# Altium footprint library KLS7-SS-12F19-G5.PcbLib: 1 footprints
Each footprint in its own frame and in the unit in brackets; x right, y up, seen from the top. Pads: shape width x height; smd on the part's side, far side on the other; paste and mask are expansions set on the pad; w line width, h text height; cw(c..) or ccw(c..) is an arc to the next point about the centre after c.
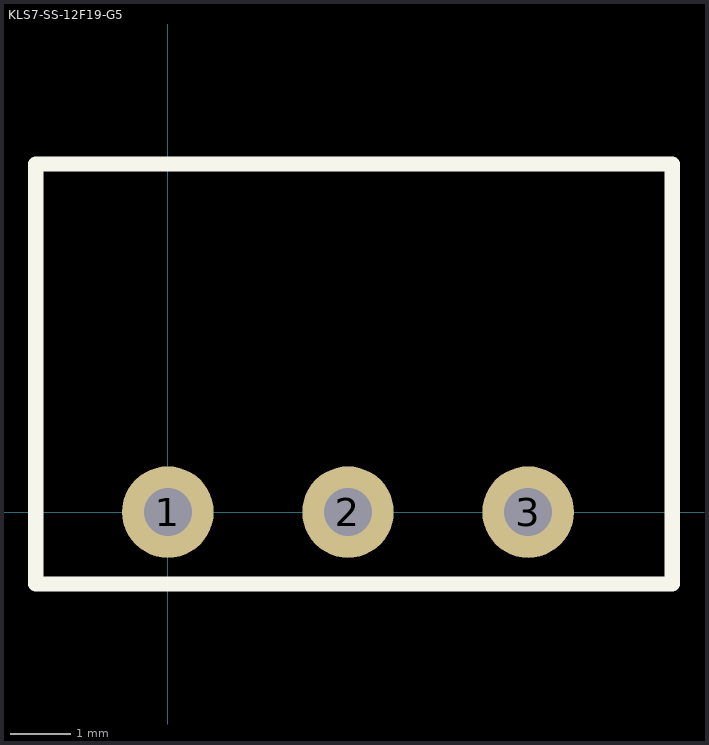
[diagram p0: the footprint, top view; thin cyan lines are the x and y axes]

## KLS7-SS-12F19-G5 [mil]
pads (3):
  round 60 hole 31.5: 1(0,0) 2(118.11,0) 3(236.22,0)
Top Overlay:
  lines w10: -86.61,-47.24 330.71,-47.24 330.71,228.35 -86.61,228.35 -86.61,-47.24